# Altium footprint library analogmushroom.PcbLib: 50 footprints (part 3 of 4)
Each footprint in its own frame and in the unit in brackets; x right, y up, seen from the top. Pads: shape width x height; smd on the part's side, far side on the other; paste and mask are expansions set on the pad; w line width, h text height; cw(c..) or ccw(c..) is an arc to the next point about the centre after c.
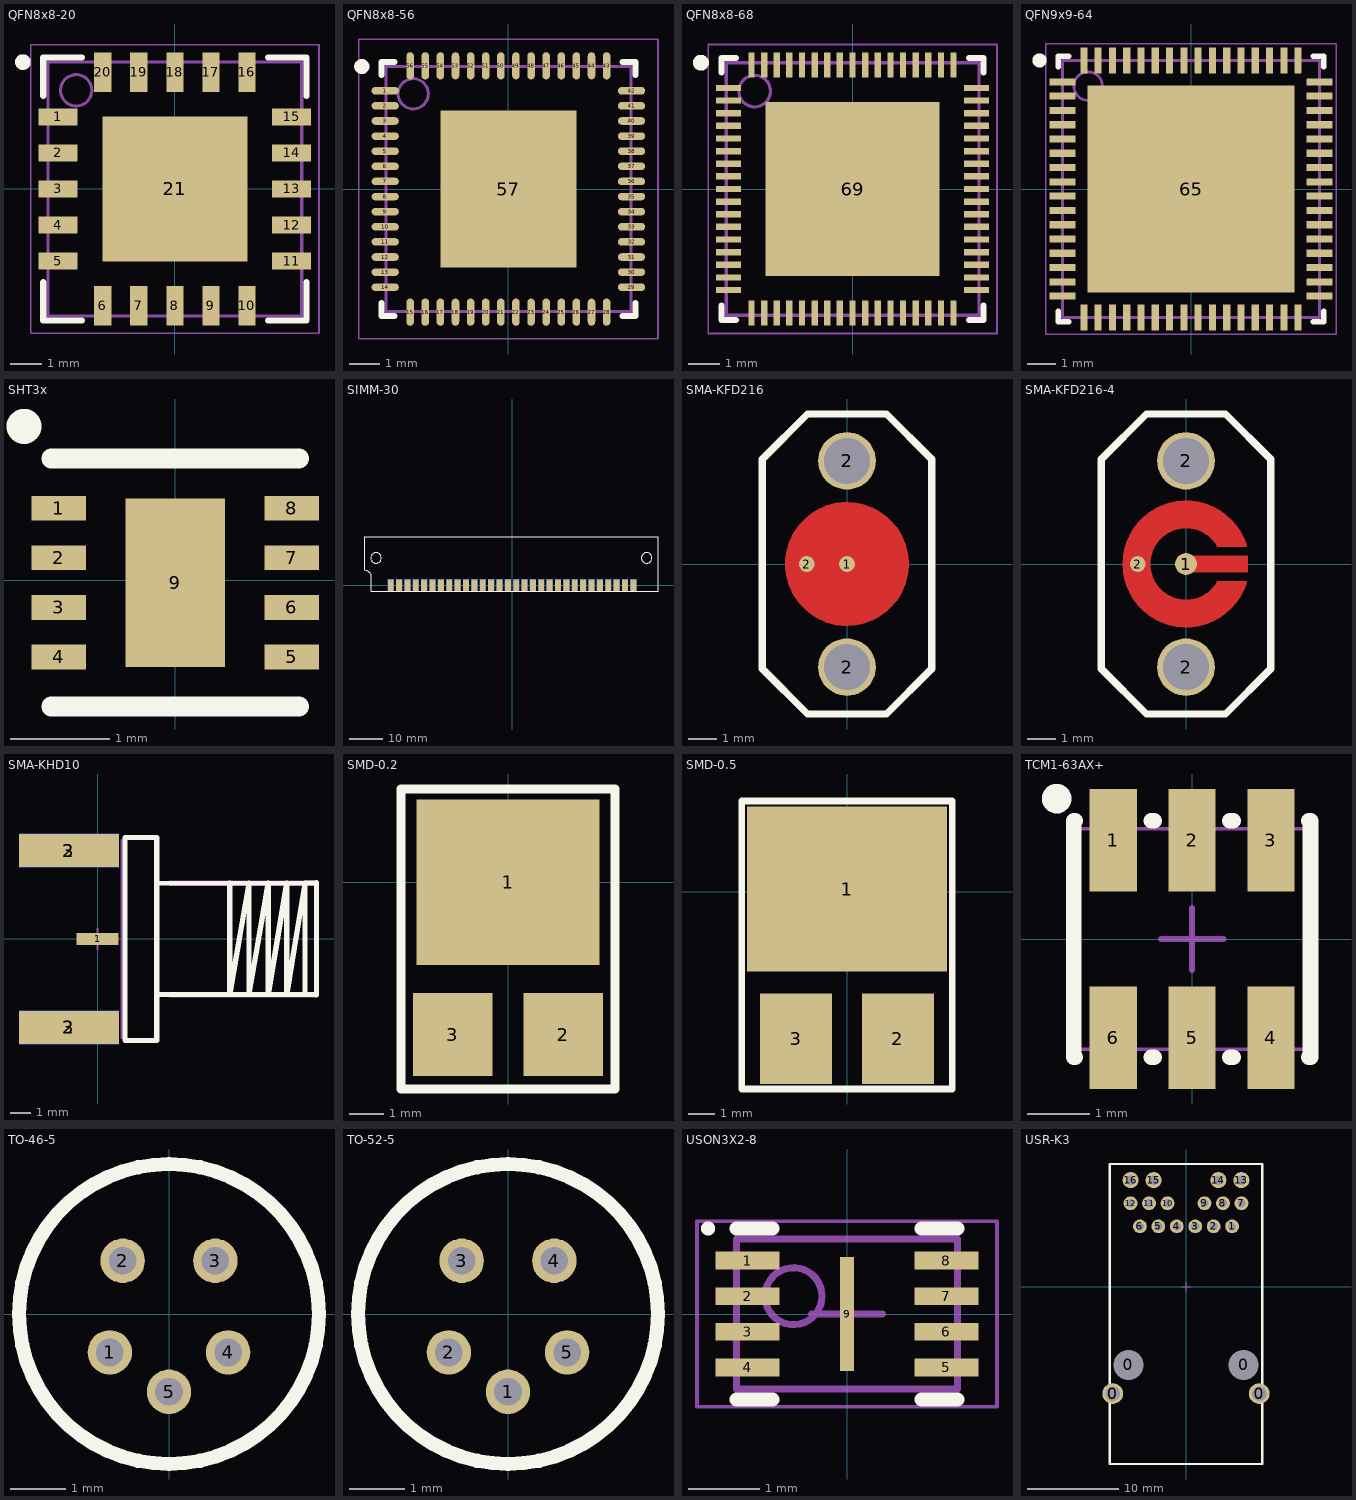
[diagram p2: the footprints below, top view; thin cyan lines are the x and y axes]

## QFN8x8-20 [mm]
pads (21):
  rect 1.25x0.55 smd: 1(-3.725,2.3) 2(-3.725,1.15) 3(-3.725,0) 4(-3.725,-1.15) 5(-3.725,-2.3) 11(3.725,-2.3) 12(3.725,-1.15) 13(3.725,0) 14(3.725,1.15) 15(3.725,2.3)
  rect 0.55x1.25 smd: 6(-2.3,-3.725) 7(-1.15,-3.725) 8(0,-3.725) 9(1.15,-3.725) 10(2.3,-3.725) 16(2.3,3.725) 17(1.15,3.725) 18(0,3.725) 19(-1.15,3.725) 20(-2.3,3.725)
  rect 4.62x4.62 smd: 21(0,0)
Top Overlay:
  circle w0.25: c-4.85,4.05 r0.125
  lines w0.2: -4.2,-2.975 -4.2,-4.2 -2.975,-4.2 ; -4.2,2.975 -4.2,4.2 -2.975,4.2 ; 2.975,-4.2 4.2,-4.2 4.2,-2.975 ; 2.975,4.2 4.2,4.2 4.2,2.975
Mechanical 13:
  circle w0.1: c-3.15,3.15 r0.5
  lines w0.1: -4.05,-4.05 4.05,-4.05 4.05,4.05 -4.05,4.05 -4.05,-4.05
Mechanical 15:
  lines w0.05: -4.6,-4.6 4.6,-4.6 4.6,4.6 -4.6,4.6 -4.6,-4.6
  lines w0.1: -0.5,0 0.5,0 ; 0,-0.5 0,0.5
3D body "QFN115P800X800X220_HS-21N.step": height 2.2, standoff 0, extent -4.1,-4.1 4.1,4.1

## QFN8x8-56 [mm] "QFN, 56-Leads, Body 8.00x8.00mm, Pitch 0.50mm, Thermal Pad 4.50x5.20mm, IPC Low Density"
height 0.9
pads (57):
  oval 0.9x0.25 smd: 1(-4.075,3.25) 2(-4.075,2.75) 3(-4.075,2.25) 4(-4.075,1.75) 5(-4.075,1.25) 6(-4.075,0.75) 7(-4.075,0.25) 8(-4.075,-0.25) 9(-4.075,-0.75) 10(-4.075,-1.25) 11(-4.075,-1.75) 12(-4.075,-2.25) 13(-4.075,-2.75) 14(-4.075,-3.25) 29(4.075,-3.25) 30(4.075,-2.75) 31(4.075,-2.25) 32(4.075,-1.75) 33(4.075,-1.25) 34(4.075,-0.75) 35(4.075,-0.25) 36(4.075,0.25) 37(4.075,0.75) 38(4.075,1.25) 39(4.075,1.75) 40(4.075,2.25) 41(4.075,2.75) 42(4.075,3.25)
  oval 0.25x0.9 smd: 15(-3.25,-4.075) 16(-2.75,-4.075) 17(-2.25,-4.075) 18(-1.75,-4.075) 19(-1.25,-4.075) 20(-0.75,-4.075) 21(-0.25,-4.075) 22(0.25,-4.075) 23(0.75,-4.075) 24(1.25,-4.075) 25(1.75,-4.075) 26(2.25,-4.075) 27(2.75,-4.075) 28(3.25,-4.075) 43(3.25,4.075) 44(2.75,4.075) 45(2.25,4.075) 46(1.75,4.075) 47(1.25,4.075) 48(0.75,4.075) 49(0.25,4.075) 50(-0.25,4.075) 51(-0.75,4.075) 52(-1.25,4.075) 53(-1.75,4.075) 54(-2.25,4.075) 55(-2.75,4.075) 56(-3.25,4.075)
  rect 4.5x5.2 smd: 57(0,0)
Top Overlay:
  circle w0.25: c-4.85,4.05 r0.125
  lines w0.2: -4.2,-3.775 -4.2,-4.2 -3.775,-4.2 ; -4.2,3.775 -4.2,4.2 -3.775,4.2 ; 3.775,-4.2 4.2,-4.2 4.2,-3.775 ; 3.775,4.2 4.2,4.2 4.2,3.775
Mechanical 13:
  circle w0.1: c-3.15,3.15 r0.5
  lines w0.1: -4.05,-4.05 -4.05,4.05 4.05,4.05 4.05,-4.05 -4.05,-4.05
Mechanical 15:
  lines w0.05: -4.95,-4.95 -4.95,4.95 4.95,4.95 4.95,-4.95 -4.95,-4.95
  lines w0.1: -0.5,0 0.5,0 ; 0,-0.5 0,0.5
3D body "QFN50P800X800X90_HS-57M.step": height 0.9, standoff 0, extent -4.1,-4.1 4.1,4.1

## QFN8x8-68 [mm]
height 0.75
pads (69):
  rect 0.8x0.2 smd: 1(-3.925,3.2) 2(-3.925,2.8) 3(-3.925,2.4) 4(-3.925,2) 5(-3.925,1.6) 6(-3.925,1.2) 7(-3.925,0.8) 8(-3.925,0.4) 9(-3.925,0) 10(-3.925,-0.4) 11(-3.925,-0.8) 12(-3.925,-1.2) 13(-3.925,-1.6) 14(-3.925,-2) 15(-3.925,-2.4) 16(-3.925,-2.8) 17(-3.925,-3.2) 35(3.925,-3.2) 36(3.925,-2.8) 37(3.925,-2.4) 38(3.925,-2) 39(3.925,-1.6) 40(3.925,-1.2) 41(3.925,-0.8) 42(3.925,-0.4) 43(3.925,0) 44(3.925,0.4) 45(3.925,0.8) 46(3.925,1.2) 47(3.925,1.6) 48(3.925,2) 49(3.925,2.4) 50(3.925,2.8) 51(3.925,3.2)
  rect 0.2x0.8 smd: 18(-3.2,-3.925) 19(-2.8,-3.925) 20(-2.4,-3.925) 21(-2,-3.925) 22(-1.6,-3.925) 23(-1.2,-3.925) 24(-0.8,-3.925) 25(-0.4,-3.925) 26(0,-3.925) 27(0.4,-3.925) 28(0.8,-3.925) 29(1.2,-3.925) 30(1.6,-3.925) 31(2,-3.925) 32(2.4,-3.925) 33(2.8,-3.925) 34(3.2,-3.925) 52(3.2,3.925) 53(2.8,3.925) 54(2.4,3.925) 55(2,3.925) 56(1.6,3.925) 57(1.2,3.925) 58(0.8,3.925) 59(0.4,3.925) 60(0,3.925) 61(-0.4,3.925) 62(-0.8,3.925) 63(-1.2,3.925) 64(-1.6,3.925) 65(-2,3.925) 66(-2.4,3.925) 67(-2.8,3.925) 68(-3.2,3.925)
  rect 5.5x5.5 smd: 69(0,0)
Top Overlay:
  circle w0.25: c-4.8,4 r0.125
  lines w0.2: -4.15,-3.7 -4.15,-4.15 -3.7,-4.15 ; -4.15,3.7 -4.15,4.15 -3.7,4.15 ; 3.7,-4.15 4.15,-4.15 4.15,-3.7 ; 3.7,4.15 4.15,4.15 4.15,3.7
Mechanical 13:
  circle w0.1: c-3.1,3.1 r0.5
  lines w0.1: -4,-4 4,-4 4,4 -4,4 -4,-4
Mechanical 15:
  lines w0.05: -4.575,-4.575 4.575,-4.575 4.575,4.575 -4.575,4.575 -4.575,-4.575
  lines w0.1: -0.5,0 0.5,0 ; 0,-0.5 0,0.5
3D body "QFN127P600-8N.step": height 0.75, standoff 0, extent -4.02,-4.02 4.02,4.02

## QFN9x9-64 [mm] "QFN, 64-Leads, Body 9.00x9.00mm, Pitch 0.50mm, Thermal Pad 7.25x7.25mm, IPC Medium Density"
height 1
pads (65):
  rect 0.9x0.25 smd: 1(-4.5,3.75) 2(-4.5,3.25) 3(-4.5,2.75) 4(-4.5,2.25) 5(-4.5,1.75) 6(-4.5,1.25) 7(-4.5,0.75) 8(-4.5,0.25) 9(-4.5,-0.25) 10(-4.5,-0.75) 11(-4.5,-1.25) 12(-4.5,-1.75) 13(-4.5,-2.25) 14(-4.5,-2.75) 15(-4.5,-3.25) 16(-4.5,-3.75) 33(4.5,-3.75) 34(4.5,-3.25) 35(4.5,-2.75) 36(4.5,-2.25) 37(4.5,-1.75) 38(4.5,-1.25) 39(4.5,-0.75) 40(4.5,-0.25) 41(4.5,0.25) 42(4.5,0.75) 43(4.5,1.25) 44(4.5,1.75) 45(4.5,2.25) 46(4.5,2.75) 47(4.5,3.25) 48(4.5,3.75)
  rect 0.25x0.9 smd: 17(-3.75,-4.5) 18(-3.25,-4.5) 19(-2.75,-4.5) 20(-2.25,-4.5) 21(-1.75,-4.5) 22(-1.25,-4.5) 23(-0.75,-4.5) 24(-0.25,-4.5) 25(0.25,-4.5) 26(0.75,-4.5) 27(1.25,-4.5) 28(1.75,-4.5) 29(2.25,-4.5) 30(2.75,-4.5) 31(3.25,-4.5) 32(3.75,-4.5) 49(3.75,4.5) 50(3.25,4.5) 51(2.75,4.5) 52(2.25,4.5) 53(1.75,4.5) 54(1.25,4.5) 55(0.75,4.5) 56(0.25,4.5) 57(-0.25,4.5) 58(-0.75,4.5) 59(-1.25,4.5) 60(-1.75,4.5) 61(-2.25,4.5) 62(-2.75,4.5) 63(-3.25,4.5) 64(-3.75,4.5)
  rect 7.25x7.25 smd: 65(0,0)
Top Overlay:
  circle w0.25: c-5.3,4.5 r0.125
  lines w0.2: -4.65,-4.275 -4.65,-4.65 -4.275,-4.65 ; -4.65,4.275 -4.65,4.65 -4.275,4.65 ; 4.275,-4.65 4.65,-4.65 4.65,-4.275 ; 4.275,4.65 4.65,4.65 4.65,4.275
Mechanical 13:
  circle w0.1: c-3.6,3.6 r0.5
  lines w0.1: -4.5,-4.5 -4.5,4.5 4.5,4.5 4.5,-4.5 -4.5,-4.5
Mechanical 15:
  lines w0.05: -5.075,-5.075 -5.075,5.075 5.075,5.075 5.075,-5.075 -5.075,-5.075
  lines w0.1: -0.5,0 0.5,0 ; 0,-0.5 0,0.5
3D body "QFN50P900X900X100_HS-65N.step": height 1, standoff 0, extent -4.55,-4.55 4.55,4.55

## SHT3x [mm]
pads (9):
  rect 0.55x0.25 smd: 1(-1.175,0.725) 2(-1.175,0.225) 3(-1.175,-0.275) 4(-1.175,-0.775) 5(1.175,-0.775) 6(1.175,-0.275) 7(1.175,0.225) 8(1.175,0.725)
  rect 1x1.7 smd: 9(0,-0.025)
Top Overlay:
  circle w0.254: c-1.525,1.55 r0.05
  lines w0.2: -1.25,-1.275 1.25,-1.275 ; -1.25,1.225 1.25,1.225
3D body "User Library-SHT3x.STEP": height 0.9, standoff -0.01, extent -1.26,-1.25 1.26,1.25

## SIMM-30 [mm]
pads (60):
  rect 1.78x3.5 smd: 1(-36.83,0) 2(-34.29,0) 3(-31.75,0) 4(-29.21,0) 5(-26.67,0) 6(-24.13,0) 7(-21.59,0) 8(-19.05,0) 9(-16.51,0) 10(-13.97,0) 11(-11.43,0) 12(-8.89,0) 13(-6.35,0) 14(-3.81,0) 15(-1.27,0) 16(1.27,0) 17(3.81,0) 18(6.35,0) 19(8.89,0) 20(11.43,0) 21(13.97,0) 22(16.51,0) 23(19.05,0) 24(21.59,0) 25(24.13,0) 26(26.67,0) 27(29.21,0) 28(31.75,0) 29(34.29,0) 30(36.83,0)
  rect 1.78x3.5 smd far side: 1(-36.83,0) 2(-34.29,0) 3(-31.75,0) 4(-29.21,0) 5(-26.67,0) 6(-24.13,0) 7(-21.59,0) 8(-19.05,0) 9(-16.51,0) 10(-13.97,0) 11(-11.43,0) 12(-8.89,0) 13(-6.35,0) 14(-3.81,0) 15(-1.27,0) 16(1.27,0) 17(3.81,0) 18(6.35,0) 19(8.89,0) 20(11.43,0) 21(13.97,0) 22(16.51,0) 23(19.05,0) 24(21.59,0) 25(24.13,0) 26(26.67,0) 27(29.21,0) 28(31.75,0) 29(34.29,0) 30(36.83,0)
via -36.83,1.4 diameter 0.6 hole 0.4
via -34.29,1.4 diameter 0.6 hole 0.4
via -31.75,1.4 diameter 0.6 hole 0.4
via -29.21,1.4 diameter 0.6 hole 0.4
via -26.67,1.4 diameter 0.6 hole 0.4
via -24.13,1.4 diameter 0.6 hole 0.4
via -21.59,1.4 diameter 0.6 hole 0.4
via -19.05,1.4 diameter 0.6 hole 0.4
via -16.51,1.4 diameter 0.6 hole 0.4
via -13.97,1.4 diameter 0.6 hole 0.4
via -11.43,1.4 diameter 0.6 hole 0.4
via -8.89,1.4 diameter 0.6 hole 0.4
via -6.35,1.4 diameter 0.6 hole 0.4
via -3.81,1.4 diameter 0.6 hole 0.4
via -1.27,1.4 diameter 0.6 hole 0.4
via 1.27,1.4 diameter 0.6 hole 0.4
via 3.81,1.4 diameter 0.6 hole 0.4
via 6.35,1.4 diameter 0.6 hole 0.4
via 8.89,1.4 diameter 0.6 hole 0.4
via 11.43,1.4 diameter 0.6 hole 0.4
via 13.97,1.4 diameter 0.6 hole 0.4
via 16.51,1.4 diameter 0.6 hole 0.4
via 19.05,1.4 diameter 0.6 hole 0.4
via 21.59,1.4 diameter 0.6 hole 0.4
via 24.13,1.4 diameter 0.6 hole 0.4
via 26.67,1.4 diameter 0.6 hole 0.4
via 29.21,1.4 diameter 0.6 hole 0.4
via 31.75,1.4 diameter 0.6 hole 0.4
via 34.29,1.4 diameter 0.6 hole 0.4
via 36.83,1.4 diameter 0.6 hole 0.4
Top Overlay:
  circle w0.2: c-41.275,8.258 r1.6
  circle w0.2: c40.884,8.259 r1.59
  lines w0.2: -42.672,2.391 ccw(c-44.717,2.403) -44.704,4.448 -44.704,14.735 44.323,14.735 44.323,-1.902 -42.672,-1.902 -42.672,2.416

## SMA-KFD216 [mm]
pads (4):
  round 0.55 smd: 1(0,0) 2(-1.397,0)
  round 2 hole 1.6: 2(0,-3.58) 2(0,3.58)
Top Layer:
  circle w1.515: c0,0 r1.392
  pour cut-out: -1.392,0 0,-1.393 1.393,0 0,1.393
Top Overlay:
  lines w0.254: -2.946,-3.632 -2.946,3.632 -1.372,5.207 1.372,5.207 2.946,3.632 2.946,-3.632 1.372,-5.207 -1.372,-5.207 -2.946,-3.632
Top Solder:
  region: -1.321,5.08 -2.819,3.581 -2.82,-3.581 -1.321,-5.08 1.32,-5.08 2.82,-3.58 2.819,3.58 1.313,5.08
3D body "SMA-KFD216模型图(彩色).STEP": height 9.6, standoff -0.16, extent -3.175,-5 3.175,5

## SMA-KFD216-4 [mm]
pads (4):
  round 0.76 smd: 1(0,0)
  round 0.55 smd: 2(-1.676,0)
  round 2 hole 1.6: 2(0,-3.58) 2(0,3.58)
Top Layer:
  rectangle: 0,-0.29 2.16,0.29
  region: 1.117,0.635 2.065,0.635 1.981,0.838 1.753,1.245 1.43,1.27 0.787,1.27
  region: 1.117,-0.635 2.065,-0.635 1.981,-0.838 1.753,-1.245 1.43,-1.27 0.787,-1.27
  lines w0.1: 1.117,-0.635 cw(c0,0) 1.117,0.635 2.065,0.635 ccw(c0,0) 2.065,-0.635 1.117,-0.635
  lines w0.875: 1.315,-1.113 cw(c0,0) 1.315,1.113
Top Overlay:
  lines w0.254: -2.946,-3.632 -2.946,3.632 -1.372,5.207 1.372,5.207 2.946,3.632 2.946,-3.632 1.372,-5.207 -1.372,-5.207 -2.946,-3.632
Top Solder:
  region: -1.321,5.08 -2.819,3.581 -2.82,-3.581 -1.321,-5.08 1.32,-5.08 2.82,-3.58 2.819,3.58 1.313,5.08
3D body "SMA-KFD216-4(彩色).STEP": height 9.5, standoff -0.11, extent -3.175,-5.08 3.175,5.08

## SMA-KHD10 [mm]
pads (5):
  rect 2x0.6 smd: 1(0,0)
  rect 4.8x1.6 smd: 2(-1.374,-4.25) 2(-1.374,4.25)
  rect 4.8x1.6 smd far side: 3(-1.374,-4.25) 3(-1.374,4.25)
Top Overlay:
  lines w0.254: 2.844,-2.667 9.972,-2.667 ; 2.844,2.669 9.972,2.689 ; 6.362,2.689 6.362,-2.667 7.287,2.689 7.287,-2.667 8.212,2.689 8.212,-2.667 9.101,2.689 9.101,-2.667 9.972,2.689 ; 10.526,-2.68 10.526,2.7 10.516,2.689 9.972,2.689 ; 10.526,-2.667 9.972,-2.667 ; 9.972,-2.667 9.972,2.689 ; 1.32,-4.875 1.32,4.875 2.844,4.875 2.844,-4.875 1.32,-4.875
Mechanical 6:
  region: 3.456,2.81 3.456,2.57 10.406,2.57 10.406,-2.55 3.456,-2.55 3.456,-2.79 10.526,-2.79 10.646,-2.67 10.646,2.72 10.556,2.81
Mechanical 15:
  lines w0.1: -0.5,0 0.5,0 ; 0,-0.5 0,0.5
  lines w0.127: 1.166,-4.75 1.166,4.75
3D body "SMA-KHD10模型图(1).STEP": height 4.17, standoff -3.83, extent -3.673,-4.75 10.577,4.75

## SMD-0.2 [mm]
pads (3):
  rect 5.3x4.8 smd: 1(0,0)
  rect 2.3x2.4 smd: 2(1.605,-4.42) 3(-1.605,-4.42)
Top Overlay:
  lines w0.254: -3.1,-6 -3.1,2.7 3.1,2.7 3.1,-6 -3.1,-6
3D body "User Library-International Rectifier Case SMD-02 model.step": height -0.48, standoff -3, extent -2.87,-5.8 2.87,2.35

## SMD-0.5 [mm]
pads (3):
  rect 7.5x6.2 smd: 1(0,0.1)
  rect 2.7x3.4 smd: 2(1.905,-5.52) 3(-1.905,-5.52)
Top Overlay:
  lines w0.254: -3.95,-7.4 3.95,-7.4 3.95,3.4 -3.95,3.4 -3.95,-7.4
3D body "User Library-IR_SMD_0_5.STEP": height -0.48, standoff -3.6, extent -3.76,-7.18 3.76,2.98

## TCM1-63AX+ [mm]
pads (6):
  rect 0.76x1.65 smd: 1(-1.27,1.59) 2(0,1.59) 3(1.27,1.59) 4(1.27,-1.59) 5(0,-1.59) 6(-1.27,-1.59)
Top Overlay:
  circle w0.254: c-2.18,2.26 r0.112
  lines w0.254: -1.881,-1.905 -1.905,-1.905 -1.905,1.905 -1.881,1.905 ; -0.659,-1.905 -0.611,-1.905 ; -0.659,1.905 -0.611,1.905 ; 0.611,-1.905 0.659,-1.905 ; 0.611,1.905 0.659,1.905 ; 1.881,-1.905 1.905,-1.905 1.905,1.905 1.881,1.905
Mechanical 15:
  lines w0.051: -1.905,-1.775 1.905,-1.775 1.905,1.775 -1.905,1.775 -1.905,-1.775
  lines w0.1: -0.5,0 0.5,0 ; 0,-0.5 0,0.5

## TO-46-5 [mm]
pads (5):
  round 0.8 hole 0.5: 1(-1.065,-0.692) 2(-0.833,0.958) 3(0.833,0.958) 4(1.065,-0.692) 5(0,-1.4)
Top Overlay:
  circle w0.254: c0,0 r2.7

## TO-52-5 [mm]
pads (5):
  round 0.8 hole 0.5: 1(0,-1.4) 2(-1.065,-0.692) 3(-0.833,0.958) 4(0.833,0.958) 5(1.065,-0.692)
Top Overlay:
  circle w0.254: c0,0 r2.7

## USON3X2-8 [mm] "SON, 8-Leads, Body 2.00x3.00mm, Pitch 0.50mm, Thermal Pad 1.60x0.20mm, IPC Medium Density"
height 0.45
pads (9):
  rect 0.9x0.25 smd: 1(-1.395,0.75) 2(-1.395,0.25) 3(-1.395,-0.25) 4(-1.395,-0.75) 5(1.395,-0.75) 6(1.395,-0.25) 7(1.395,0.25) 8(1.395,0.75)
  rect 0.2x1.6 smd: 9(0,0)
Top Overlay:
  circle w0.1: c-1.95,1.2 r0.05
  lines w0.2: -1.55,-1.2 -1.045,-1.2 ; -1.55,1.2 -1.045,1.2 ; 1.045,-1.2 1.55,-1.2 ; 1.045,1.2 1.55,1.2
Mechanical 13:
  circle w0.1: c-0.75,0.25 r0.4
  lines w0.1: -1.55,-1.05 -1.55,1.05 1.55,1.05 1.55,-1.05 -1.55,-1.05
Mechanical 15:
  lines w0.05: -2.105,-1.3 -2.105,1.3 2.105,1.3 2.105,-1.3 -2.105,-1.3
  lines w0.1: -0.5,0 0.5,0 ; 0,-0.5 0,0.5
3D body "SON50P300X45_HS-9N.step": height 0.45, standoff 0, extent -1.57,-1.05 1.57,1.05

## USR-K3 [mil]
pads (20):
  round 90 hole 62: 0(-317.5,-462.5) 0(317.5,-462.5)
  round 90 hole 130 unplated: 0(-250,-337.5) 0(250,-337.5)
  round 60 hole 35: 1(200,262.5) 2(120,262.5) 3(40,262.5) 4(-40,262.5) 5(-120,262.5) 6(-200,262.5) 7(240,362.5) 8(160,362.5) 9(80,362.5) 10(-80,362.5) 11(-160,362.5) 12(-240,362.5)
  round 70 hole 40: 13(240,462.5) 14(140,462.5) 15(-140,462.5) 16(-240,462.5)
Top Overlay:
  lines w10: -330,-767.5 -330,532.5 331,532.5 331,-767.5 -330,-767.5
Mechanical 15:
  lines w3.94: -19.68,0 19.69,0 ; 0,-19.69 0,19.68